# Altium footprint library SP160-SM02-R.PcbLib: 1 footprints
Each footprint in its own frame and in the unit in brackets; x right, y up, seen from the top. Pads: shape width x height; smd on the part's side, far side on the other; paste and mask are expansions set on the pad; w line width, h text height; cw(c..) or ccw(c..) is an arc to the next point about the centre after c.
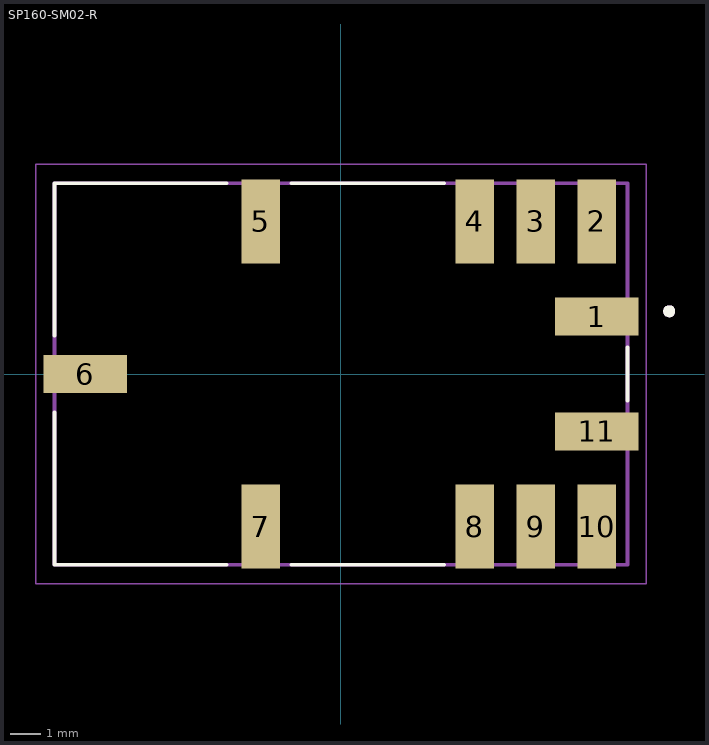
[diagram p0: the footprint, top view; thin cyan lines are the x and y axes]

## SP160-SM02-R [mm]
pads (11):
  rect 2.79x1.27 smd: 1(8.51,1.91) 6(-8.51,0) 11(8.51,-1.91)
  rect 1.27x2.79 smd: 2(8.51,5.08) 3(6.48,5.08) 4(4.45,5.08) 5(-2.67,5.08) 7(-2.67,-5.08) 8(4.45,-5.08) 9(6.48,-5.08) 10(8.51,-5.08)
Top Overlay:
  circle w0.2: c10.922,2.088 r0.1
  lines w0.127: -9.53,-1.27 -9.53,-6.35 -3.81,-6.35 ; -9.53,1.27 -9.53,6.35 -3.81,6.35 ; -1.651,-6.35 3.429,-6.35 ; -1.651,6.35 3.429,6.35 ; 9.53,-0.889 9.53,0.889
Mechanical 13:
  circle w0.2: c10.922,2.088 r0.1
  lines w0.127: -9.53,-6.35 9.53,-6.35 9.53,6.35 -9.53,6.35 -9.53,-6.35
Mechanical 15:
  lines w0.05: -10.156,-6.981 10.156,-6.981 10.156,6.981 -10.156,6.981 -10.156,-6.981
3D body "step_temp.STEP": height 9.51, standoff 0, extent -9.525,-6.607 9.525,6.607